# Altium footprint library Tubes.PcbLib: 4 footprints
Each footprint in its own frame and in the unit in brackets; x right, y up, seen from the top. Pads: shape width x height; smd on the part's side, far side on the other; paste and mask are expansions set on the pad; w line width, h text height; cw(c..) or ccw(c..) is an arc to the next point about the centre after c.
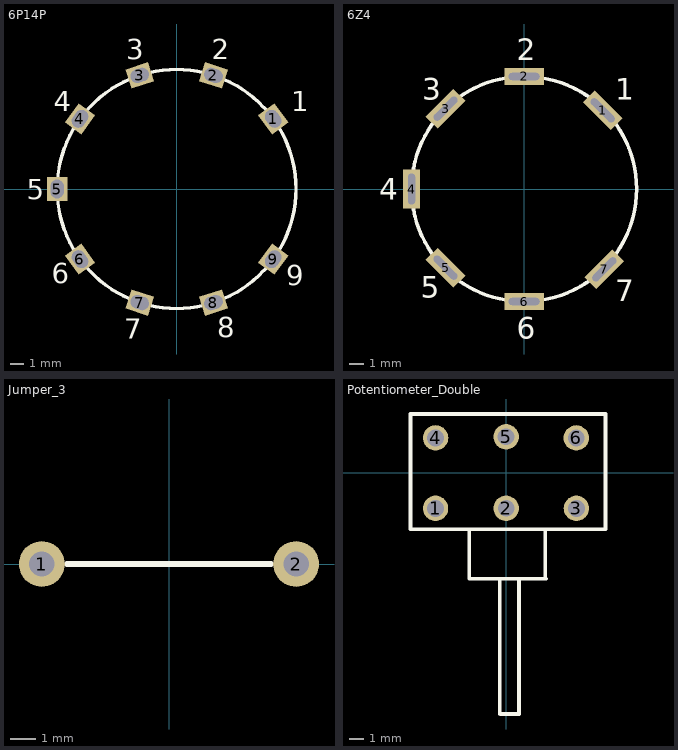
[diagram p0: the footprints below, top view; thin cyan lines are the x and y axes]

## 6P14P [mm]
pads (9):
  rect 1.8x1.524 hole 1 slot 1.4 at 126 deg rot 126: 1(7.281,5.29) 6(-7.281,-5.29)
  rect 1.8x1.524 hole 1 slot 1.4 at 162 deg rot 162: 2(2.781,8.56) 7(-2.781,-8.56)
  rect 1.8x1.524 hole 1 slot 1.4 at 18 deg rot 18: 3(-2.781,8.56) 8(2.781,-8.56)
  rect 1.8x1.524 hole 1 slot 1.4 at 54 deg rot 54: 4(-7.281,5.29) 9(7.281,-5.29)
  rect 1.524x1.8 hole 1 slot 1.4 at 90 deg: 5(-9,0)
Top Overlay:
  circle w0.254: c0,0 r9
  text "9" at 8.255,-7.239 h1.52
  text "8" at 3.048,-11.176 h1.52
  text "7" at -3.937,-11.303 h1.52
  text "6" at -9.398,-7.112 h1.52
  text "5" at -11.303,-0.762 h1.52
  text "4" at -9.271,5.842 h1.52
  text "3" at -3.81,9.779 h1.52
  text "2" at 2.667,9.779 h1.52
  text "1" at 8.636,5.842 h1.52
Drill Drawing:
  lines w0.254: -9,0 -6.985,0 -5.715,-1.27 -4.445,-1.27 -3.175,0 -4.445,1.27 -4.445,2.454 -7.281,5.29 ; -2.781,-8.56 -2.781,-8.496 ; -2.781,8.56 -2.616,8.56 -2.54,8.636

## 6Z4 [mm]
height 10
pads (7):
  rect 2.8x1.2 hole 0.5 slot 2.2 at 135 deg rot 135: 1(5.588,5.588) 5(-5.588,-5.588)
  rect 2.8x1.2 hole 0.5 slot 2.2 at 0 deg: 2(0,8.002) 6(0,-8.002)
  rect 2.8x1.2 hole 0.5 slot 2.2 at 45 deg rot 45: 3(-5.588,5.715) 7(5.715,-5.715)
  rect 1.2x2.8 hole 0.5 slot 2.2 at 90 deg: 4(-8.002,0)
Top Overlay:
  circle w0.254: c0,0 r8
  text "6" at -0.508,-10.668 h1.52
  text "5" at -7.366,-7.747 h1.52
  text "4" at -10.287,-0.762 h1.52
  text "3" at -7.239,6.35 h1.52
  text "2" at -0.508,9.144 h1.52
  text "1" at 6.477,6.35 h1.52
  text "7" at 6.477,-8.001 h1.52
Drill Drawing:
  lines w0.254: -8.002,0 -7.62,0 -6.35,-1.27 -4.445,-1.27 -3.175,0 -4.445,1.27 -4.445,4.572 -5.588,5.715 ; 0,8.002 0.254,8.002

## Jumper_3 [mm]
pads (2):
  round 1.8 hole 1: 1(-5,0) 2(5,0)
Top Overlay:
  lines w0.254: -4,0 4,0

## Potentiometer_Double [mm]
height 20
pads (6):
  round 1.8 hole 1.2: 1(-5.011,-2.534) 2(0.007,-2.532) 3(4.989,-2.534) 4(-5.009,2.472) 5(0.006,2.546) 6(4.984,2.467)
Top Overlay:
  lines w0.254: -2.586,-4.103 -2.62,-4.136 -2.62,-7.54 2.839,-7.54 2.772,-7.473 2.772,-4.103 ; -0.43,-7.608 -0.463,-7.641 -0.463,-17.11 -0.43,-17.143 0.918,-17.143 0.918,-7.641 ; -6.791,-4.029 -6.791,4.165 7.06,4.165 7.06,-4.029 -6.791,-4.029